# Altium schematic symbol library RELAY_SPDT.SchLib: 1 symbol
Pins are listed as number, name and electrical type; pins without a type are passive.

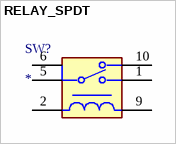
[diagram p0: symbol RELAY_SPDT]

## RELAY_SPDT
designator SW?
Value: *
pins: 1 NO, 2, 5 COM, 6 COM, 9, 10 NC